# EAGLE library part MIC2619 (library Power > Switching Controllers)
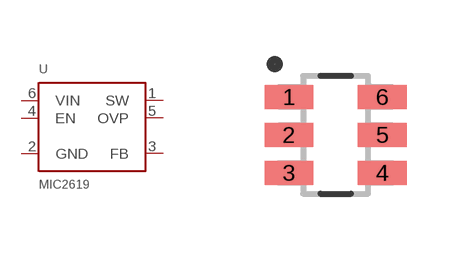
[diagram p15: symbol with the pads of SOT-23-6N; footprint SOT-23-6N]

Designator prefix U

## MIC2619  [SOT-23-6N]
1  SW
2  GND
3  FB
4  EN
5  OVP
6  VIN

## Footprint SOT-23-6N (pad centres in mm)
smd 1.219 x 0.6: 1 -1.168,0.95; 2 -1.168,0; 3 -1.168,-0.95; 4 1.168,-0.95; 5 1.168,0; 6 1.168,0.95